# Altium footprint library Package_CSP.PcbLib: 127 footprints (part 8 of 8)
Each footprint in its own frame and in the unit in brackets; x right, y up, seen from the top. Pads: shape width x height; smd on the part's side, far side on the other; paste and mask are expansions set on the pad; w line width, h text height; cw(c..) or ccw(c..) is an arc to the next point about the centre after c.
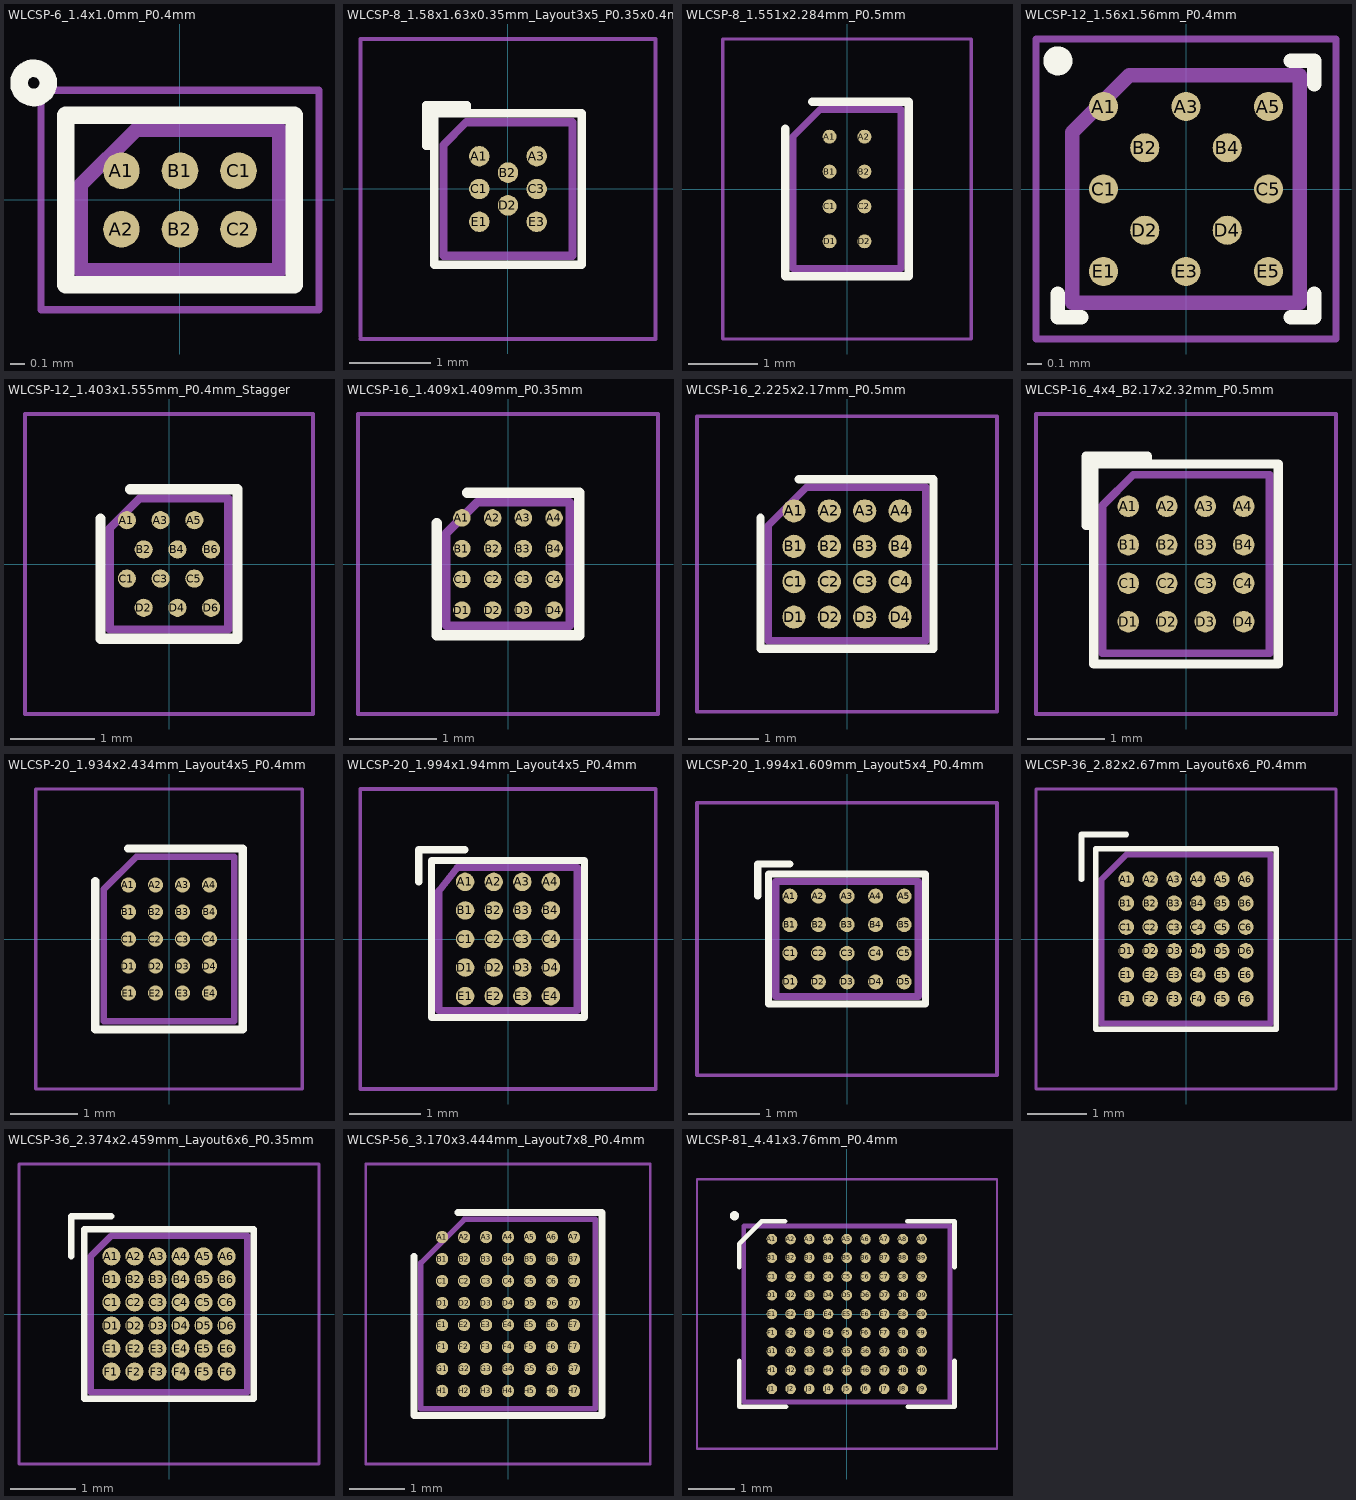
[diagram p7: the footprints below, top view; thin cyan lines are the x and y axes]

## WLCSP-6_1.4x1.0mm_P0.4mm [mm]
pads (6):
  round 0.25 smd: A1(-0.4,0.2) A2(-0.4,-0.2) B1(0,0.2) B2(0,-0.2) C1(0.4,0.2) C2(0.4,-0.2)
F.SilkS:
  circle w0.12: c-1,0.8 r0.1
  lines w0.12: -0.78,-0.58 -0.78,0.58 0.78,0.58 0.78,-0.58 -0.78,-0.58
F.CrtYd:
  lines w0.05: -0.95,-0.75 -0.95,0.75 0.95,0.75 0.95,-0.75 -0.95,-0.75
F.Fab:
  lines w0.1: -0.68,-0.48 0.68,-0.48 0.68,0.48 -0.3,0.48 -0.68,0.1 -0.68,-0.48
  text "'.Designator'" at -4.047,0.86 h1

## WLCSP-8_1.58x1.63x0.35mm_Layout3x5_P0.35x0.4mm_Ball0.25mm_Pad0.25mm_NSMD [mm]
pads (8):
  round 0.25 smd: A1(-0.35,0.4) A3(0.35,0.4) B2(0,0.2) C1(-0.35,0) C3(0.35,0) D2(0,-0.2) E1(-0.35,-0.4) E3(0.35,-0.4)
F.SilkS:
  lines w0.1: -0.95,0.975 -0.9,0.925 ; -0.9,0.525 -1,0.525 -1,1.025 -0.5,1.025 -0.5,0.925 ; -0.9,0.925 0.9,0.925 0.9,-0.925 -0.9,-0.925 -0.9,0.925
F.CrtYd:
  lines w0.05: -1.8,-1.83 1.8,-1.83 1.8,1.83 -1.8,1.83 -1.8,-1.8
F.Fab:
  lines w0.1: -0.787,-0.816 0.787,-0.816 0.787,0.816 -0.509,0.816 -0.787,0.537 -0.787,-0.816
  text "'.Designator'" at -1.619,-0.336 h0.4

## WLCSP-8_1.551x2.284mm_P0.5mm [mm]
pads (8):
  round 0.2 smd: A1(-0.25,0.75) A2(0.25,0.75) B1(-0.25,0.25) B2(0.25,0.25) C1(-0.25,-0.25) C2(0.25,-0.25) D1(-0.25,-0.75) D2(0.25,-0.75)
F.SilkS:
  lines w0.12: -0.885,0.864 -0.885,-1.252 0.885,-1.252 0.885,1.252 -0.498,1.252
F.CrtYd:
  lines w0.05: -1.78,-2.15 -1.78,2.15 1.78,2.15 1.78,-2.15 -1.78,-2.15
F.Fab:
  lines w0.1: -0.776,-1.142 0.776,-1.142 0.776,1.142 -0.388,1.142 -0.776,0.754 -0.776,-1.142
  text "'.Designator'" at -1.457,-0.303 h0.36

## WLCSP-12_1.56x1.56mm_P0.4mm [mm]
pads (12):
  round 0.2 smd: A1(-0.566,0.566) A3(0,0.566) A5(0.566,0.566) B2(-0.283,0.283) B4(0.283,0.283) C1(-0.566,0) C5(0.566,0) D2(-0.283,-0.283) D4(0.283,-0.283) E1(-0.566,-0.566) E3(0,-0.566) E5(0.566,-0.566)
F.SilkS:
  circle w0.1: c-0.88,0.88 r0.05
  lines w0.1: -0.88,-0.72 -0.88,-0.88 -0.72,-0.88 ; 0.72,-0.88 0.88,-0.88 0.88,-0.72 ; 0.72,0.88 0.88,0.88 0.88,0.72
F.CrtYd:
  lines w0.05: -1.03,-1.03 -1.03,1.03 1.03,1.03 1.03,-1.03 -1.03,-1.03
F.Fab:
  lines w0.1: -0.78,-0.78 -0.78,0.39 -0.39,0.78 0.78,0.78 0.78,-0.78 -0.78,-0.78
  text "'.Designator'" at -1.214,-0.252 h0.3

## WLCSP-12_1.403x1.555mm_P0.4mm_Stagger [mm]
pads (12):
  round 0.215 smd: A1(-0.5,0.52) A3(-0.1,0.52) A5(0.3,0.52) B2(-0.3,0.173) B4(0.1,0.173) B6(0.5,0.173) C1(-0.5,-0.173) C3(-0.1,-0.173) C5(0.3,-0.173) D2(-0.3,-0.52) D4(0.1,-0.52) D6(0.5,-0.52)
F.SilkS:
  lines w0.12: -0.811,0.537 -0.811,-0.887 0.811,-0.887 0.811,0.887 -0.461,0.887
F.CrtYd:
  lines w0.05: -1.71,-1.78 -1.71,1.78 1.71,1.78 1.71,-1.78 -1.71,-1.78
F.Fab:
  lines w0.1: -0.701,-0.777 0.701,-0.777 0.701,0.777 -0.351,0.777 -0.701,0.427 -0.701,-0.777
  text "'.Designator'" at -1.335,-0.277 h0.33

## WLCSP-16_1.409x1.409mm_P0.35mm [mm]
pads (16):
  round 0.2 smd: A1(-0.525,0.525) A2(-0.175,0.525) A3(0.175,0.525) A4(0.525,0.525) B1(-0.525,0.175) B2(-0.175,0.175) B3(0.175,0.175) B4(0.525,0.175) C1(-0.525,-0.175) C2(-0.175,-0.175) C3(0.175,-0.175) C4(0.525,-0.175) D1(-0.525,-0.525) D2(-0.175,-0.525) D3(0.175,-0.525) D4(0.525,-0.525)
F.SilkS:
  lines w0.12: -0.814,0.462 -0.814,-0.814 0.814,-0.814 0.814,0.814 -0.462,0.814
F.CrtYd:
  lines w0.05: -1.71,-1.71 1.71,-1.71 1.71,1.71 -1.71,1.71 -1.71,-1.71
F.Fab:
  lines w0.1: -0.704,-0.704 -0.704,0.352 -0.352,0.704 0.704,0.704 0.704,-0.704 -0.704,-0.704
  text "'.Designator'" at -1.335,-0.277 h0.33

## WLCSP-16_2.225x2.17mm_P0.5mm [mm]
pads (16):
  round 0.327 smd: A1(-0.75,0.75) A2(-0.25,0.75) A3(0.25,0.75) A4(0.75,0.75) B1(-0.75,0.25) B2(-0.25,0.25) B3(0.25,0.25) B4(0.75,0.25) C1(-0.75,-0.25) C2(-0.25,-0.25) C3(0.25,-0.25) C4(0.75,-0.25) D1(-0.75,-0.75) D2(-0.25,-0.75) D3(0.25,-0.75) D4(0.75,-0.75)
F.SilkS:
  lines w0.12: -1.222,0.653 -1.222,-1.195 1.222,-1.195 1.222,1.195 -0.68,1.195
F.CrtYd:
  lines w0.05: -2.12,-2.09 2.12,-2.09 2.12,2.09 -2.12,2.09 -2.12,-2.09
F.Fab:
  lines w0.1: -1.112,-1.085 1.112,-1.085 1.112,1.085 -0.57,1.085 -1.112,0.543 -1.112,-1.085
  text "'.Designator'" at -2.104,-0.437 h0.52

## WLCSP-16_4x4_B2.17x2.32mm_P0.5mm [mm]
pads (16):
  round 0.28 smd: A1(-0.75,0.75) A2(-0.25,0.75) A3(0.25,0.75) A4(0.75,0.75) B1(-0.75,0.25) B2(-0.25,0.25) B3(0.25,0.25) B4(0.75,0.25) C1(-0.75,-0.25) C2(-0.25,-0.25) C3(0.25,-0.25) C4(0.75,-0.25) D1(-0.75,-0.75) D2(-0.25,-0.75) D3(0.25,-0.75) D4(0.75,-0.75)
F.SilkS:
  lines w0.12: -1.2,0.5 -1.3,0.5 -1.3,1.4 ; -0.5,1.3 -0.5,1.4 -1.3,1.4 ; -1.3,1.4 -1.2,1.3 ; -1.2,1.3 -1.2,-1.3 1.2,-1.3 1.2,1.3 -1.2,1.3
F.CrtYd:
  lines w0.05: -1.95,-1.95 1.95,-1.95 1.95,1.95 -1.95,1.95 -1.95,-1.95
F.Fab:
  lines w0.1: -1.085,-1.16 1.085,-1.16 1.085,1.16 -0.685,1.16 -1.085,0.76 -1.085,-1.16
  text "'.Designator'" at -4.047,-0.84 h1

## WLCSP-20_1.934x2.434mm_Layout4x5_P0.4mm [mm]
pads (20):
  round 0.225 smd: A1(-0.6,0.8) A2(-0.2,0.8) A3(0.2,0.8) A4(0.6,0.8) B1(-0.6,0.4) B2(-0.2,0.4) B3(0.2,0.4) B4(0.6,0.4) C1(-0.6,0) C2(-0.2,0) C3(0.2,0) C4(0.6,0) D1(-0.6,-0.4) D2(-0.2,-0.4) D3(0.2,-0.4) D4(0.6,-0.4) E1(-0.6,-0.8) E2(-0.2,-0.8) E3(0.2,-0.8) E4(0.6,-0.8)
F.SilkS:
  lines w0.12: -1.092,0.858 -1.092,-1.342 1.092,-1.342 1.092,1.342 -0.609,1.342
F.CrtYd:
  lines w0.05: -1.97,-2.22 -1.97,2.22 1.97,2.22 1.97,-2.22 -1.97,-2.22
F.Fab:
  lines w0.1: -0.967,-1.217 -0.967,0.734 -0.483,1.217 0.967,1.217 0.967,-1.217 -0.967,-1.217
  text "'.Designator'" at -1.821,-0.378 h0.45

## WLCSP-20_1.994x1.94mm_Layout4x5_P0.4mm [mm]
pads (20):
  round 0.258 smd: A1(-0.6,0.8) A2(-0.2,0.8) A3(0.2,0.8) A4(0.6,0.8) B1(-0.6,0.4) B2(-0.2,0.4) B3(0.2,0.4) B4(0.6,0.4) C1(-0.6,0) C2(-0.2,0) C3(0.2,0) C4(0.6,0) D1(-0.6,-0.4) D2(-0.2,-0.4) D3(0.2,-0.4) D4(0.6,-0.4) E1(-0.6,-0.8) E2(-0.2,-0.8) E3(0.2,-0.8) E4(0.6,-0.8)
F.SilkS:
  lines w0.1: -1.25,0.8 -1.25,1.25 -0.6,1.25 ; -1.07,-1.1 -1.07,1.1 1.07,1.1 1.07,-1.1 -1.07,-1.1
F.CrtYd:
  lines w0.05: -2.07,-2.1 2.07,-2.1 2.07,2.1 -2.07,2.1 -2.07,-2.1
F.Fab:
  lines w0.1: -0.97,-1 0.97,-1 ; -0.97,-0.997 -0.97,0.66 ; -0.97,0.67 -0.71,1 ; -0.7,1 0.97,1 ; 0.97,-0.997 0.97,0.997
  text "'.Designator'" at -1.024,-0.223 h0.25

## WLCSP-20_1.994x1.609mm_Layout5x4_P0.4mm [mm]
pads (20):
  round 0.21 smd: A1(-0.8,0.6) A2(-0.4,0.6) A3(0,0.6) A4(0.4,0.6) A5(0.8,0.6) B1(-0.8,0.2) B2(-0.4,0.2) B3(0,0.2) B4(0.4,0.2) B5(0.8,0.2) C1(-0.8,-0.2) C2(-0.4,-0.2) C3(0,-0.2) C4(0.4,-0.2) C5(0.8,-0.2) D1(-0.8,-0.6) D2(-0.4,-0.6) D3(0,-0.6) D4(0.4,-0.6) D5(0.8,-0.6)
F.SilkS:
  lines w0.1: -1.25,0.6 -1.25,1.05 -0.8,1.05 ; -1.1,-0.91 1.1,-0.91 1.1,0.91 -1.1,0.91 -1.1,-0.91
F.CrtYd:
  lines w0.05: -2.1,-1.91 -2.1,1.91 2.1,1.91 2.1,-1.91 -2.1,-1.91
F.Fab:
  lines w0.1: -0.997,-0.804 -0.997,0.804 0.997,0.804 0.997,-0.804 -0.997,-0.804
  text "'.Designator'" at -1.024,-0.223 h0.25

## WLCSP-36_2.82x2.67mm_Layout6x6_P0.4mm [mm]
pads (36):
  round 0.26 smd: A1(-1,1) A2(-0.6,1) A3(-0.2,1) A4(0.2,1) A5(0.6,1) A6(1,1) B1(-1,0.6) B2(-0.6,0.6) B3(-0.2,0.6) B4(0.2,0.6) B5(0.6,0.6) B6(1,0.6) C1(-1,0.2) C2(-0.6,0.2) C3(-0.2,0.2) C4(0.2,0.2) C5(0.6,0.2) C6(1,0.2) D1(-1,-0.2) D2(-0.6,-0.2) D3(-0.2,-0.2) D4(0.2,-0.2) D5(0.6,-0.2) D6(1,-0.2) E1(-1,-0.6) E2(-0.6,-0.6) E3(-0.2,-0.6) E4(0.2,-0.6) E5(0.6,-0.6) E6(1,-0.6) F1(-1,-1) F2(-0.6,-1) F3(-0.2,-1) F4(0.2,-1) F5(0.6,-1) F6(1,-1)
F.SilkS:
  lines w0.1: -1.75,1 -1.75,1.75 -1,1.75 ; -1.51,-1.51 1.51,-1.51 1.51,1.51 -1.51,1.51 -1.51,-1.51
F.CrtYd:
  lines w0.05: -2.51,-2.51 -2.51,2.51 2.51,2.51 2.51,-2.51 -2.51,-2.51
F.Fab:
  lines w0.1: -1.41,-1.41 -1.41,1 -1,1.41 1.41,1.41 1.41,-1.41 -1.41,-1.41
  text "'.Designator'" at -2.073,-0.47 h0.5

## WLCSP-36_2.374x2.459mm_Layout6x6_P0.35mm [mm]
pads (36):
  round 0.274 smd: A1(-0.875,0.875) A2(-0.525,0.875) A3(-0.175,0.875) A4(0.175,0.875) A5(0.525,0.875) A6(0.875,0.875) B1(-0.875,0.525) B2(-0.525,0.525) B3(-0.175,0.525) B4(0.175,0.525) B5(0.525,0.525) B6(0.875,0.525) C1(-0.875,0.175) C2(-0.525,0.175) C3(-0.175,0.175) C4(0.175,0.175) C5(0.525,0.175) C6(0.875,0.175) D1(-0.875,-0.175) D2(-0.525,-0.175) D3(-0.175,-0.175) D4(0.175,-0.175) D5(0.525,-0.175) D6(0.875,-0.175) E1(-0.875,-0.525) E2(-0.525,-0.525) E3(-0.175,-0.525) E4(0.175,-0.525) E5(0.525,-0.525) E6(0.875,-0.525) F1(-0.875,-0.875) F2(-0.525,-0.875) F3(-0.175,-0.875) F4(0.175,-0.875) F5(0.525,-0.875) F6(0.875,-0.875)
F.SilkS:
  lines w0.1: -1.485,0.88 -1.485,1.48 ; -1.485,1.485 -0.88,1.485 ; -1.287,-1.287 -1.287,1.287 1.287,1.287 1.287,-1.287 -1.287,-1.287
F.CrtYd:
  lines w0.05: -2.28,-2.28 -2.28,2.28 2.28,2.28 2.28,-2.28 -2.28,-2.28
F.Fab:
  lines w0.1: -1.187,-1.187 -1.187,0.88 -0.88,1.187 1.187,1.187 1.187,-1.187 -1.187,-1.187
  text "'.Designator'" at -2.073,-0.47 h0.5

## WLCSP-56_3.170x3.444mm_Layout7x8_P0.4mm [mm]
pads (56):
  round 0.225 smd: A1(-1.2,1.4) A2(-0.8,1.4) A3(-0.4,1.4) A4(0,1.4) A5(0.4,1.4) A6(0.8,1.4) A7(1.2,1.4) B1(-1.2,1) B2(-0.8,1) B3(-0.4,1) B4(0,1) B5(0.4,1) B6(0.8,1) B7(1.2,1) C1(-1.2,0.6) C2(-0.8,0.6) C3(-0.4,0.6) C4(0,0.6) C5(0.4,0.6) C6(0.8,0.6) C7(1.2,0.6) D1(-1.2,0.2) D2(-0.8,0.2) D3(-0.4,0.2) D4(0,0.2) D5(0.4,0.2) D6(0.8,0.2) D7(1.2,0.2) E1(-1.2,-0.2) E2(-0.8,-0.2) E3(-0.4,-0.2) E4(0,-0.2) E5(0.4,-0.2) E6(0.8,-0.2) E7(1.2,-0.2) F1(-1.2,-0.6) F2(-0.8,-0.6) F3(-0.4,-0.6) F4(0,-0.6) F5(0.4,-0.6) F6(0.8,-0.6) F7(1.2,-0.6) G1(-1.2,-1) G2(-0.8,-1) G3(-0.4,-1) G4(0,-1) G5(0.4,-1) G6(0.8,-1) G7(1.2,-1) H1(-1.2,-1.4) H2(-0.8,-1.4) H3(-0.4,-1.4) H4(0,-1.4) H5(0.4,-1.4) H6(0.8,-1.4) H7(1.2,-1.4)
F.SilkS:
  lines w0.12: -1.71,1.054 -1.71,-1.847 1.71,-1.847 1.71,1.847 -0.917,1.847
F.CrtYd:
  lines w0.05: -2.59,-2.73 2.59,-2.73 2.59,2.73 -2.59,2.73 -2.59,-2.73
F.Fab:
  lines w0.1: -1.585,-1.722 -1.585,0.93 -0.793,1.722 1.585,1.722 1.585,-1.722 -1.585,-1.722
  text "'.Designator'" at -2.995,-0.622 h0.74

## WLCSP-81_4.41x3.76mm_P0.4mm [mm]
pads (81):
  round 0.225 smd: A1(-1.6,1.6) A2(-1.2,1.6) A3(-0.8,1.6) A4(-0.4,1.6) A5(0,1.6) A6(0.4,1.6) A7(0.8,1.6) A8(1.2,1.6) A9(1.6,1.6) B1(-1.6,1.2) B2(-1.2,1.2) B3(-0.8,1.2) B4(-0.4,1.2) B5(0,1.2) B6(0.4,1.2) B7(0.8,1.2) B8(1.2,1.2) B9(1.6,1.2) C1(-1.6,0.8) C2(-1.2,0.8) C3(-0.8,0.8) C4(-0.4,0.8) C5(0,0.8) C6(0.4,0.8) C7(0.8,0.8) C8(1.2,0.8) C9(1.6,0.8) D1(-1.6,0.4) D2(-1.2,0.4) D3(-0.8,0.4) D4(-0.4,0.4) D5(0,0.4) D6(0.4,0.4) D7(0.8,0.4) D8(1.2,0.4) D9(1.6,0.4) E1(-1.6,0) E2(-1.2,0) E3(-0.8,0) E4(-0.4,0) E5(0,0) E6(0.4,0) E7(0.8,0) E8(1.2,0) E9(1.6,0) F1(-1.6,-0.4) F2(-1.2,-0.4) F3(-0.8,-0.4) F4(-0.4,-0.4) F5(0,-0.4) F6(0.4,-0.4) F7(0.8,-0.4) F8(1.2,-0.4) F9(1.6,-0.4) G1(-1.6,-0.8) G2(-1.2,-0.8) G3(-0.8,-0.8) G4(-0.4,-0.8) G5(0,-0.8) G6(0.4,-0.8) G7(0.8,-0.8) G8(1.2,-0.8) G9(1.6,-0.8) H1(-1.6,-1.2) H2(-1.2,-1.2) H3(-0.8,-1.2) H4(-0.4,-1.2) H5(0,-1.2) H6(0.4,-1.2) H7(0.8,-1.2) H8(1.2,-1.2) H9(1.6,-1.2) J1(-1.6,-1.6) J2(-1.2,-1.6) J3(-0.8,-1.6) J4(-0.4,-1.6) J5(0,-1.6) J6(0.4,-1.6) J7(0.8,-1.6) J8(1.2,-1.6) J9(1.6,-1.6)
F.SilkS:
  circle w0.1: c-2.4,2.1 r0.05
  lines w0.1: -2.3,-1 -2.3,-1.98 -1.3,-1.98 ; -2.3,1 -2.3,1.5 -1.82,1.98 -1.32,1.98 ; 1.29,1.98 2.3,1.98 2.3,1 ; 1.3,-1.98 2.3,-1.98 2.3,-1
F.CrtYd:
  lines w0.05: -3.2,-2.88 3.21,-2.88 3.21,2.88 -3.2,2.88 -3.2,-2.88
F.Fab:
  lines w0.1: -2.204,-1.88 -2.204,1.88 2.204,1.88 2.204,-1.88 -2.204,-1.88
  text "'.Designator'" at -1.998,-0.395 h0.5